# EAGLE library part USB-MICRO_MIDMOUNT (library MTM_untested)
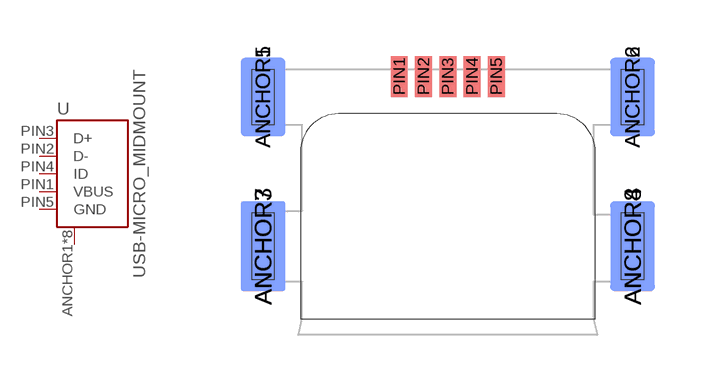
[diagram p0: symbol with the pads of MOLEX-47642-0001; footprint MOLEX-47642-0001]

Designator prefix -

## USB-MICRO_MIDMOUNT  [MOLEX-47642-0001]
ANCHOR1  SHIELD  pas
ANCHOR2  SHIELD  pas
ANCHOR3  SHIELD  pas
ANCHOR4  SHIELD  pas
ANCHOR5  SHIELD  pas
ANCHOR6  SHIELD  pas
ANCHOR7  SHIELD  pas
ANCHOR8  SHIELD  pas
PIN1  VBUS  pwr
PIN2  D-
PIN3  D+
PIN4  ID
PIN5  GND  pwr

## Footprint MOLEX-47642-0001 (pad centres in mm)
https://www.molex.com/pdm_docs/sd/476420001_sd.pdf
smd 1.2 x 2.1: ANCHOR1 -4.95,5.95; ANCHOR2 4.95,5.95
smd 1.2 x 2.4: ANCHOR3 -4.95,1.95; ANCHOR4 4.95,1.95
smd 1.2 x 2.1 bottom: ANCHOR5 -4.95,5.95; ANCHOR6 4.95,5.95
smd 1.2 x 2.4 bottom: ANCHOR7 -4.95,1.95; ANCHOR8 4.95,1.95
smd 0.45 x 1.1: PIN1 -1.3,6.5; PIN2 -0.65,6.5; PIN3 0,6.5; PIN4 0.65,6.5; PIN5 1.3,6.5